# EAGLE library part CON_SOLO_STACKER_6 (library dp_devices)
SOLO Staggard Stocker Mfr no: 009188006020062 009188006020062 <http://www.digikey.com/product-detail/en/009188006020062/478-5491-1-ND/2024954?cur=USD>
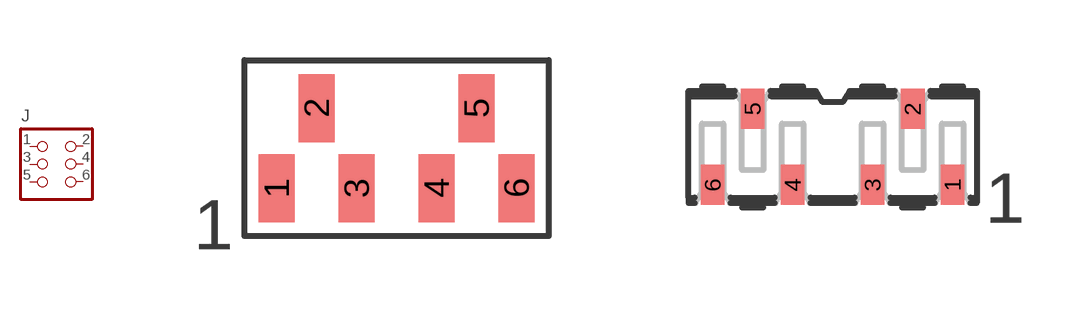
[diagram p124: symbol with the pads of CON_SOLO_STACKER_6_FOOTPRINT; footprints CON_SOLO_STACKER_6_FOOTPRINT, CON_SOLO_STACKER_6_CONNECTOR]

Designator prefix J

## CON_SOLO_STACKER_6-FOOTPRINT  [CON_SOLO_STACKER_6_FOOTPRINT]
1  1  pas
2  2  pas
3  3  pas
4  4  pas
5  5  pas
6  6  pas

## CON_SOLO_STACKER_6-CONNECTOR  [CON_SOLO_STACKER_6_CONNECTOR]
Pads as for CON_SOLO_STACKER_6_FOOTPRINT

## Footprint CON_SOLO_STACKER_6_FOOTPRINT (pad centres in mm)
SOLO Staggard Stocker Mfr no: 009188006020062 009188006020062 <http://www.digikey.com/product-detail/en/009188006020062/478-5491-1-ND/2024954?cur=USD>
smd 0.9 x 1.7: 1 -3,-1; 2 -2,1; 3 -1,-1; 4 1,-1; 5 2,1; 6 3,-1

## Footprint CON_SOLO_STACKER_6_CONNECTOR (pad centres in mm)
SOLO Staggard Stocker Mfr no: 009188006020062 009188006020062 <http://www.digikey.com/product-detail/en/009188006020062/478-5491-1-ND/2024954?cur=USD>
smd 0.6 x 1: 1 3,-0.95; 2 2,0.95; 3 1,-0.95; 4 -1,-0.95; 5 -2,0.95; 6 -3,-0.95